# Altium schematic symbol library TITLE_BLOCK.SchLib: 1 symbol
Pins are listed as number, name and electrical type; pins without a type are passive.

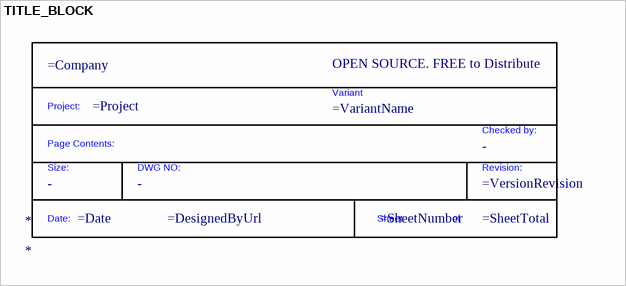
[diagram p0: symbol TITLE_BLOCK]

## TITLE_BLOCK
designator *  (graphical)
Standard Title Block; DWG NO: -; Size: -; Checked By: -
text: OPEN SOURCE. FREE to Distribute; Project:; Variant; Checked by:; Page Contents:; Size:; DWG NO:; Revision:; Date:; Sheet; of